# EAGLE library part MSP430FR5959IDAR (library MSP430FR)
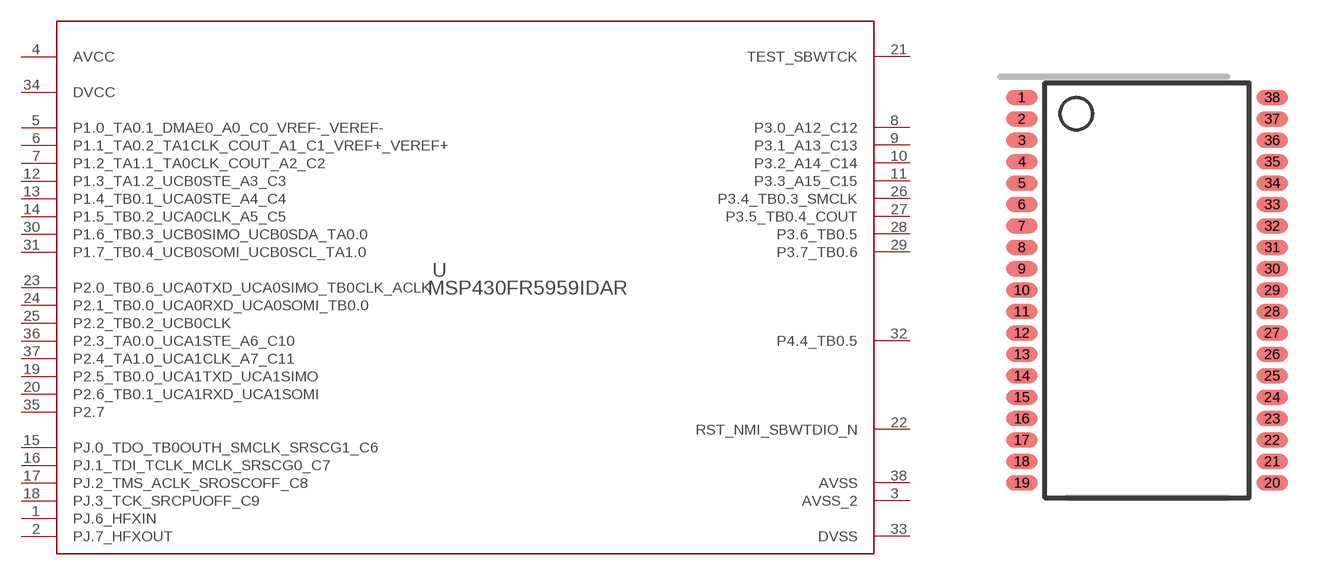
[diagram p0: symbol with the pads of DA0038A_N; footprint DA0038A_N]

Designator prefix U

## MSP430FR5959IDAR (ALTERNATEPARTNUMBER: MSP430FR5959IDA; APPLICATION_BUILDNUMBER: *; COMPTYPE: IC; MANUFACTURER: Texas Instruments; MOUNTTYPE: SMT; PACKAGEREFERENCE: DA0038A; PARTNUMBER: MSP430FR5959IDAR; PIN_COUNT: 38; REFDES: RefDes; ROHS: Y; TYPE: TYPE; VALUE: Value)  [DA0038A_N]
1  PJ.6_HFXIN
2  PJ.7_HFXOUT
3  AVSS_2  pwr
4  AVCC  pwr
5  P1.0_TA0.1_DMAE0_A0_C0_VREF-_VEREF-
6  P1.1_TA0.2_TA1CLK_COUT_A1_C1_VREF+_VEREF+
7  P1.2_TA1.1_TA0CLK_COUT_A2_C2
8  P3.0_A12_C12
9  P3.1_A13_C13
10  P3.2_A14_C14
11  P3.3_A15_C15
12  P1.3_TA1.2_UCB0STE_A3_C3
13  P1.4_TB0.1_UCA0STE_A4_C4
14  P1.5_TB0.2_UCA0CLK_A5_C5
15  PJ.0_TDO_TB0OUTH_SMCLK_SRSCG1_C6
16  PJ.1_TDI_TCLK_MCLK_SRSCG0_C7
17  PJ.2_TMS_ACLK_SROSCOFF_C8
18  PJ.3_TCK_SRCPUOFF_C9
19  P2.5_TB0.0_UCA1TXD_UCA1SIMO
20  P2.6_TB0.1_UCA1RXD_UCA1SOMI
21  TEST_SBWTCK  in
22  RST_NMI_SBWTDIO_N
23  P2.0_TB0.6_UCA0TXD_UCA0SIMO_TB0CLK_ACLK
24  P2.1_TB0.0_UCA0RXD_UCA0SOMI_TB0.0
25  P2.2_TB0.2_UCB0CLK
26  P3.4_TB0.3_SMCLK
27  P3.5_TB0.4_COUT
28  P3.6_TB0.5
29  P3.7_TB0.6
30  P1.6_TB0.3_UCB0SIMO_UCB0SDA_TA0.0
31  P1.7_TB0.4_UCB0SOMI_UCB0SCL_TA1.0
32  P4.4_TB0.5
33  DVSS  pwr
34  DVCC  pwr
35  P2.7
36  P2.3_TA0.0_UCA1STE_A6_C10
37  P2.4_TA1.0_UCA1CLK_A7_C11
38  AVSS  pwr

## Footprint DA0038A_N (pad centres in mm)
smd 0.95 x 0.45: 1 -3.8,5.85; 2 -3.8,5.2; 3 -3.8,4.55; 4 -3.8,3.9; 5 -3.8,3.25; 6 -3.8,2.6; 7 -3.8,1.95; 8 -3.8,1.3; 9 -3.8,0.65; 10 -3.8,0; 11 -3.8,-0.65; 12 -3.8,-1.3; 13 -3.8,-1.95; 14 -3.8,-2.6; 15 -3.8,-3.25; 16 -3.8,-3.9; 17 -3.8,-4.55; 18 -3.8,-5.2; 19 -3.8,-5.85; 20 3.8,-5.85; 21 3.8,-5.2; 22 3.8,-4.55; 23 3.8,-3.9; 24 3.8,-3.25; 25 3.8,-2.6; 26 3.8,-1.95; 27 3.8,-1.3; 28 3.8,-0.65; 29 3.8,0; 30 3.8,0.65; 31 3.8,1.3; 32 3.8,1.95; 33 3.8,2.6; 34 3.8,3.25; 35 3.8,3.9; 36 3.8,4.55; 37 3.8,5.2; 38 3.8,5.85